# Altium footprint library TE-5535512.PcbLib: 1 footprints
Each footprint in its own frame and in the unit in brackets; x right, y up, seen from the top. Pads: shape width x height; smd on the part's side, far side on the other; paste and mask are expansions set on the pad; w line width, h text height; cw(c..) or ccw(c..) is an arc to the next point about the centre after c.
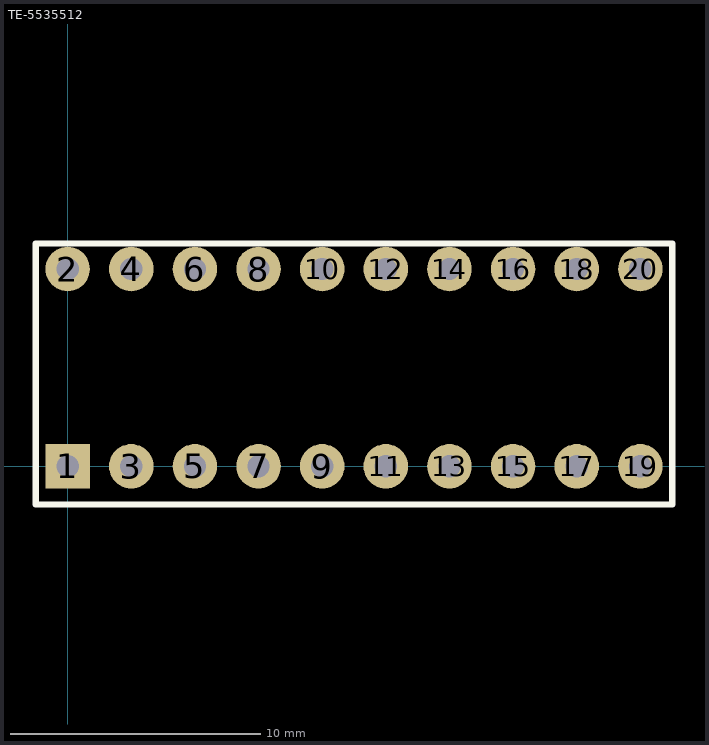
[diagram p0: the footprint, top view; thin cyan lines are the x and y axes]

## TE-5535512 [mil]
pads (20):
  rect 70x70 hole 35: 1(0,0)
  round 70 hole 35: 2(0,310) 3(100,0) 4(100,310) 5(200,0) 6(200,310) 7(300,0) 8(300,310) 9(400,0) 10(400,310) 11(500,0) 12(500,310) 13(600,0) 14(600,310) 15(700,0) 16(700,310) 17(800,0) 18(800,310) 19(900,0) 20(900,310)
Top Overlay:
  lines w10: -50,-60 950,-60 950,350 -50,350 -50,-60
Mechanical 4:
  text ".340" at 0,0 h1
3D body: height 239.65, standoff -114, extent -50,-4 950,316